# Altium schematic symbol library RGB LED.SchLib: 1 symbol
Pins are listed as number, name and electrical type; pins without a type are passive.

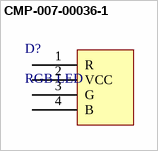
[diagram p0: symbol CMP-007-00036-1]

## CMP-007-00036-1
designator D?, comment RGB LED
4-pin common anode RGB LED
footprint New footprint 1
footprint New footprint 1
pins: 1 R, 2 VCC, 3 G, 4 B